# EAGLE library part 1X6_CLEAN (library ModernDevice#1)
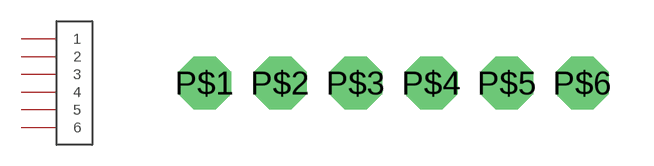
[diagram p2: symbol with the pads of 1X6_CLEAN; footprint 1X6_CLEAN]

Designator prefix -

## 1X6_CLEAN  [1X6_CLEAN]
P$1  1
P$2  2
P$3  3
P$4  4
P$5  5
P$6  6

## Footprint 1X6_CLEAN (pad centres in mm)
drill 1.016 pad 1.778 octagon: P$1 -6.35,0; P$2 -3.81,0; P$3 -1.27,0; P$4 1.27,0; P$5 3.81,0; P$6 6.35,0